# EAGLE library part MIC2177 (library zz-m-pad-2.1)
MICREL's MIC2177 2.5A Syncronous BUck Regulator General Description: The Micrel MIC2177 is a 200kHz synchronous buck (stepdown) switching regulator designed for high-efficiency, battery- powered applications. The MIC2177 operates from a 4.5V to 16.5V input and features internal power MOSFETs that can supply up to 2.5A output current. It can operate with a maximum duty cycle of 100% for use in low-dropout conditions. It also features a shutdown mode that reduces quiescent current to less than 5µA. The MIC2177 achieves high efficiency over a wide output current range by switching between PWM and skip mode. Operating mode is automatically selected according to output conditions. Switching frequency is preset to 200kHz and can be synchronized to an external clock signal of up to 300kHz. The MIC2177 uses current-mode control with internal current sensing. Current-mode control provides superior line regulation and makes the regulator control loop easy to compensate. The output is protected with pulse-by-pulse current limiting and thermal shutdown. Undervoltage lockout turns the output off when the input voltage is less than 4.5V. The MIC2177 is packaged in a 20-lead wide power SO package with an operating temperature range of -40°C to +85°C. See the MIC2178 for externally selected PWM or skip-mode operation. Features: 4.5V to 16.5V input voltage range Dual-mode operation for high efficiency (up to 96%) PWM mode for > 200mA load current Skip mode for < 200mA load current 100mOhm internal power MOSFETs at 12V input 200kHz preset switching frequency Low quiescent current 1.0mA in PWM mode 500uA in skip mode < 5µA in shutdown mode 100% duty cycle for low dropout operation Current-mode control Simplified loop compensation Superior line regulation Current limit Thermal shutdown Undervoltage lockout Applications: High-efficiency, battery-powered supplies Buck (step-down) dc-to-dc converters Cellular telephones Laptop computers Hand-held instruments Battery Charger Please send any comments to: messi@users.sourceforge.net
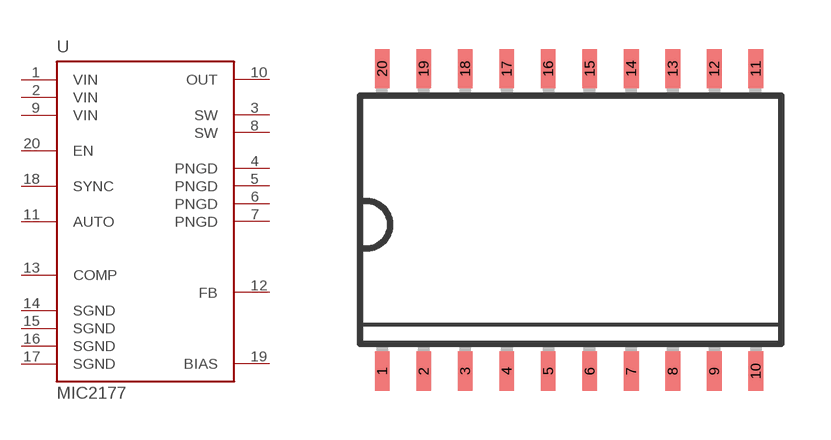
[diagram p54: symbol with the pads of SOP20W; footprint SOP20W]

Designator prefix U

## MIC2177  [SOP20W]
1  VIN  pwr
2  VIN  pwr
3  SW  out
4  PNGD  pwr
5  PNGD  pwr
6  PNGD  pwr
7  PNGD  pwr
8  SW  out
9  VIN  pwr
10  OUT  out
11  AUTO  in
12  FB  in
13  COMP  out
14  SGND  pwr
15  SGND  pwr
16  SGND  pwr
17  SGND  pwr
18  SYNC  in
19  BIAS
20  EN  in

## Footprint SOP20W (pad centres in mm)
SOP20 Wide, Used in Micrel 2177
smd 0.45 x 1.2: 1 -5.715,-4.58; 2 -4.445,-4.58; 3 -3.175,-4.58; 4 -1.905,-4.58; 5 -0.635,-4.58; 6 0.635,-4.58; 7 1.905,-4.58; 8 3.175,-4.58; 9 4.445,-4.58; 10 5.715,-4.58; 11 5.715,4.68; 12 4.445,4.68; 13 3.175,4.68; 14 1.905,4.68; 15 0.635,4.68; 16 -0.635,4.68; 17 -1.905,4.68; 18 -3.175,4.68; 19 -4.445,4.68; 20 -5.715,4.68